# EAGLE library part AS-ITM-00409 (library tinycircuits)
IC MEMS MOTION SENSOR 16LLGA
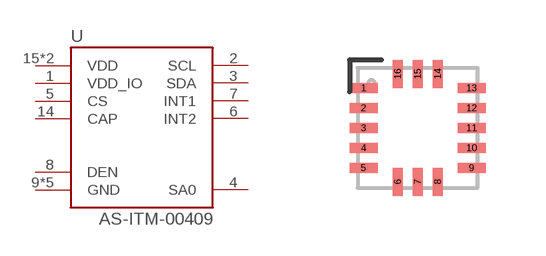
[diagram p168: symbol with the pads of LGA-16_3X3X; footprint LGA-16_3X3X]

Designator prefix U

## AS-ITM-00409 (PARTNO: AS-ITM-00409; VALUE: L3GD20H)  [LGA-16_3X3X]
1  VDD_IO
2  SCL
3  SDA
4  SA0
5  CS
6  INT2
7  INT1
8  DEN
9  GND
10  GND
11  GND
12  GND
13  GND
14  CAP
15  VDD
16  VDD

## Footprint LGA-16_3X3X (pad centres in mm)
smd 0.7 x 0.25: 1 -1.35,1; 2 -1.35,0.5; 3 -1.35,0; 4 -1.35,-0.5; 5 -1.35,-1; 9 1.35,-1; 10 1.35,-0.5; 11 1.35,0; 12 1.35,0.5; 13 1.35,1
smd 0.25 x 0.7: 6 -0.5,-1.35; 7 0,-1.35; 8 0.5,-1.35; 14 0.5,1.35; 15 0,1.35; 16 -0.5,1.35